# Altium footprint library stereo jack socket.PcbLib: 1 footprints
Each footprint in its own frame and in the unit in brackets; x right, y up, seen from the top. Pads: shape width x height; smd on the part's side, far side on the other; paste and mask are expansions set on the pad; w line width, h text height; cw(c..) or ccw(c..) is an arc to the next point about the centre after c.
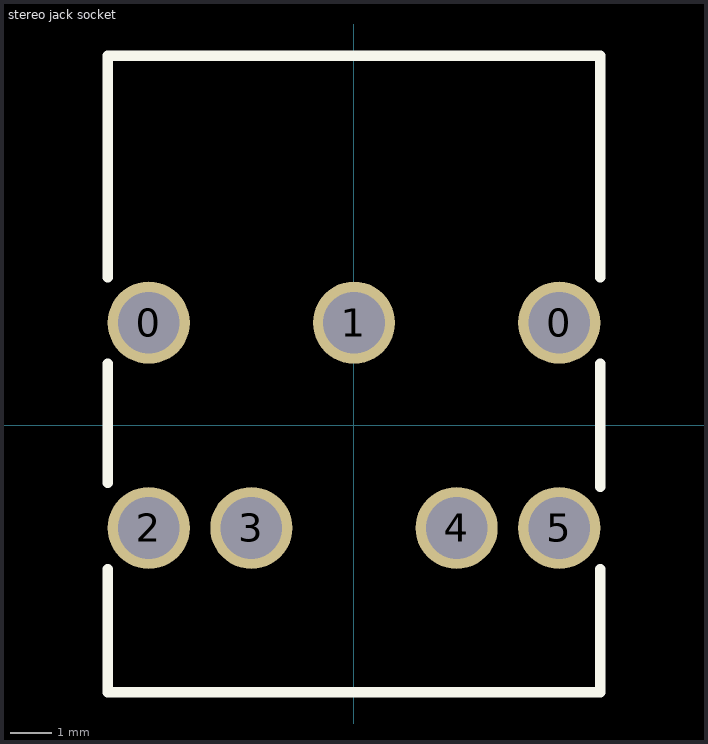
[diagram p0: the footprint, top view; thin cyan lines are the x and y axes]

## stereo jack socket [mm]
pads (7):
  round 2 hole 1.5: 0(-5,2.5) 0(5,2.5) 1(0,2.5) 2(-5,-2.5) 3(-2.5,-2.5) 4(2.5,-2.5) 5(5,-2.5)
Top Overlay:
  lines w0.254: -6,-3.5 -6,-6.5 6,-6.5 6,-3.5 ; -6,-1.4 -6,1.5 ; -6,3.6 -6,9 6,9 6,3.6 ; -1,-6.5 0.9,-6.5 ; 6,-1.5 6,1.5